# EAGLE library part TXS2SA-L-3V (library IC)
Panasonic 3V small surface mount polarized relay
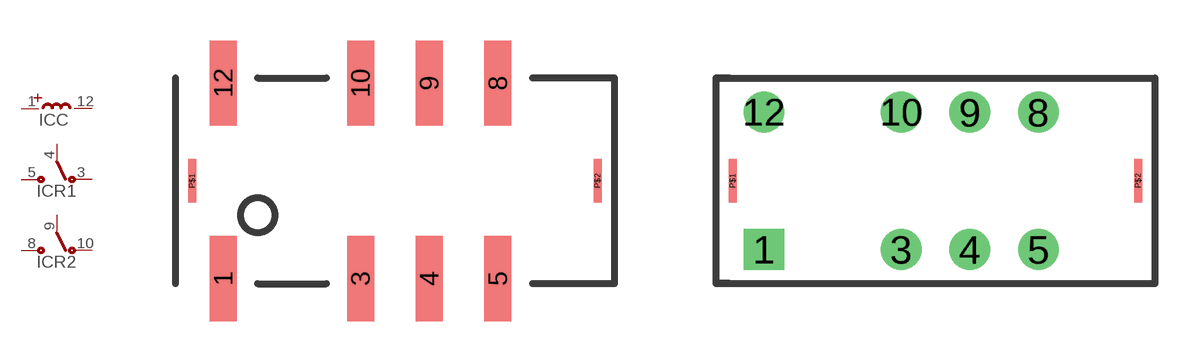
[diagram p146: symbol with the pads of TXS-SA; footprints TXS-SA, TXS-TH]

Designator prefix IC; gates C=TXS2SA-1 R1=TXS2SA-2 R2=TXS2SA-2

## TXS2SA-L-3V  [TXS-SA]
1  C:1
3  R1:NC
4  R1:C
5  R1:NO
8  R2:NO
9  R2:C
10  R2:NC
12  C:12

## TXS2SA-L-3VTH  [TXS-TH]
Pads as for TXS-SA

## Footprint TXS-SA (pad centres in mm)
Panasonic TXS standard surface mount package
smd 1 x 3.16: 1 -6.35,-3.62; 3 -1.27,-3.62; 4 1.27,-3.62; 5 3.81,-3.62; 8 3.81,3.62; 9 1.27,3.62; 10 -1.27,3.62; 12 -6.35,3.62
smd 0.3 x 1.6: P$1 -7.5,0; P$2 7.5,0

## Footprint TXS-TH (pad centres in mm)
Panasonic TXS thru -hole package
drill 1 square: 1 -6.35,-2.54
drill 1 round: 3 -1.27,-2.54; 4 1.27,-2.54; 5 3.81,-2.54; 8 3.81,2.54; 9 1.27,2.54; 10 -1.27,2.54; 12 -6.35,2.54
smd 0.3 x 1.6: P$1 -7.5,0; P$2 7.5,0